# Altium footprint library PCB - INDUCTOR - COILCRAFT XAL7070.PCBLIB: 1 footprints
Each footprint in its own frame and in the unit in brackets; x right, y up, seen from the top. Pads: shape width x height; smd on the part's side, far side on the other; paste and mask are expansions set on the pad; w line width, h text height; cw(c..) or ccw(c..) is an arc to the next point about the centre after c.
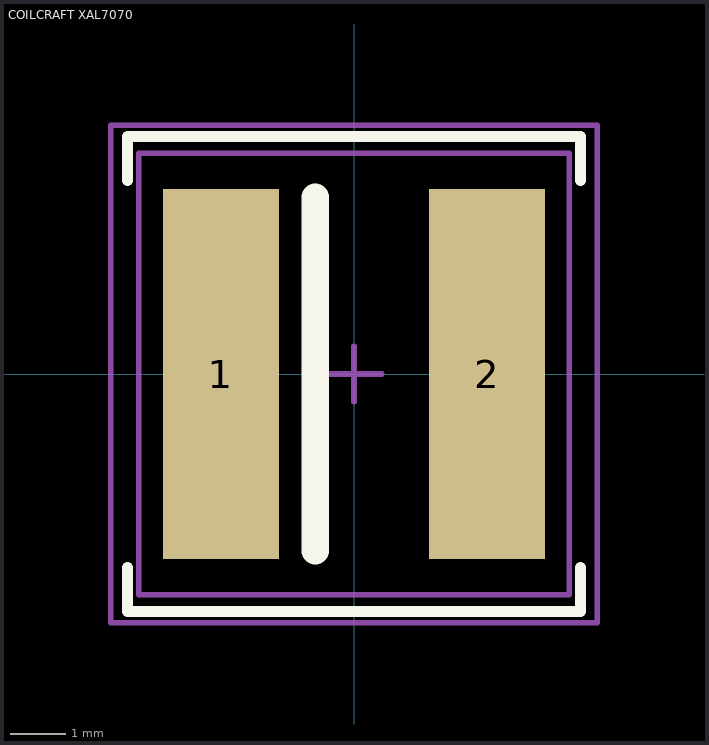
[diagram p0: the footprint, top view; thin cyan lines are the x and y axes]

## COILCRAFT XAL7070 [mm] "Precision Wire Wound Inductor, 2-Leads, Body 7.50x7.20mm, IPC Medium Density"
height 7
pads (2):
  rect 2.1x6.7 smd mask+0.15: 1(-2.41,0) 2(2.41,0)
Top Overlay:
  lines w0.2: -4.1,-3.5 -4.1,-4.3 4.1,-4.3 4.1,-3.5 ; -4.1,3.5 -4.1,4.3 4.1,4.3 4.1,3.5
  lines w0.5: -0.7,-3.2 -0.7,3.2
Mechanical 13:
  lines w0.1: -3.9,-4 3.9,-4 3.9,4 -3.9,4 -3.9,-4
Mechanical 15:
  lines w0.1: -0.5,0 0.5,0 ; 0,-0.5 0,0.5 ; -4.4,-4.5 4.4,-4.5 4.4,4.5 -4.4,4.5 -4.4,-4.5
3D body "Coilcraft - XAL7070.STEP": height 6.6, standoff -0.4, extent -3.85,-4 3.85,4